# EAGLE library part TRAFO-BLOCK-FL4/XX (library 1A-meinLib)
Flachtransformator 4W, Typ FL4/x BLOCK, 53x44x19.6
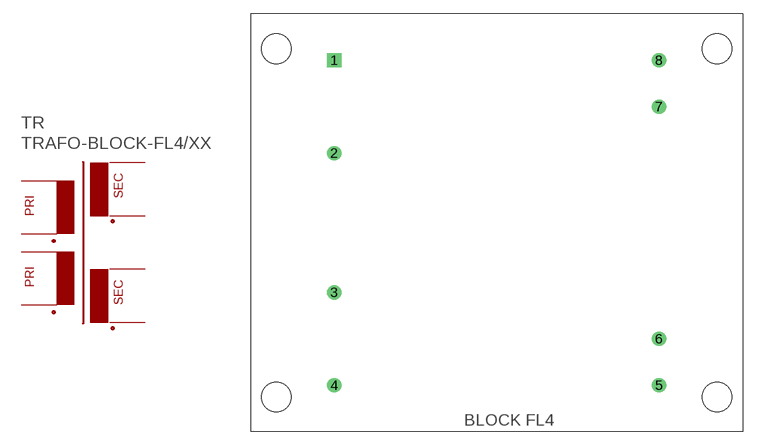
[diagram p101: symbol with the pads of BLOCK-FL4/18; footprint BLOCK-FL4/18]

Designator prefix TR

## TRAFO-BLOCK-FL4/XX  [BLOCK-FL4/18]
1  P2B  pas
2  P2A  pas
3  P1B  pas
4  P1A  pas
5  S1A  pas
6  S1B  pas
7  S2A  pas
8  S2B  pas

## Footprint BLOCK-FL4/18 (pad centres in mm)
drill 1 square: 1 0,0
drill 1 round: 2 0,-10; 3 0,-25; 4 0,-35; 5 35,-35; 6 35,-30; 7 35,-5; 8 35,0
hole 3.2 at -6.25,1.25
hole 3.2 at 41.25,1.25
hole 3.2 at 41.25,-36.25
hole 3.2 at -6.25,-36.25